# Altium integrated library SparkFun-Electromechanical.Library.IntLib: 17 symbols
Pins are listed as number, name and electrical type; pins without a type are passive.

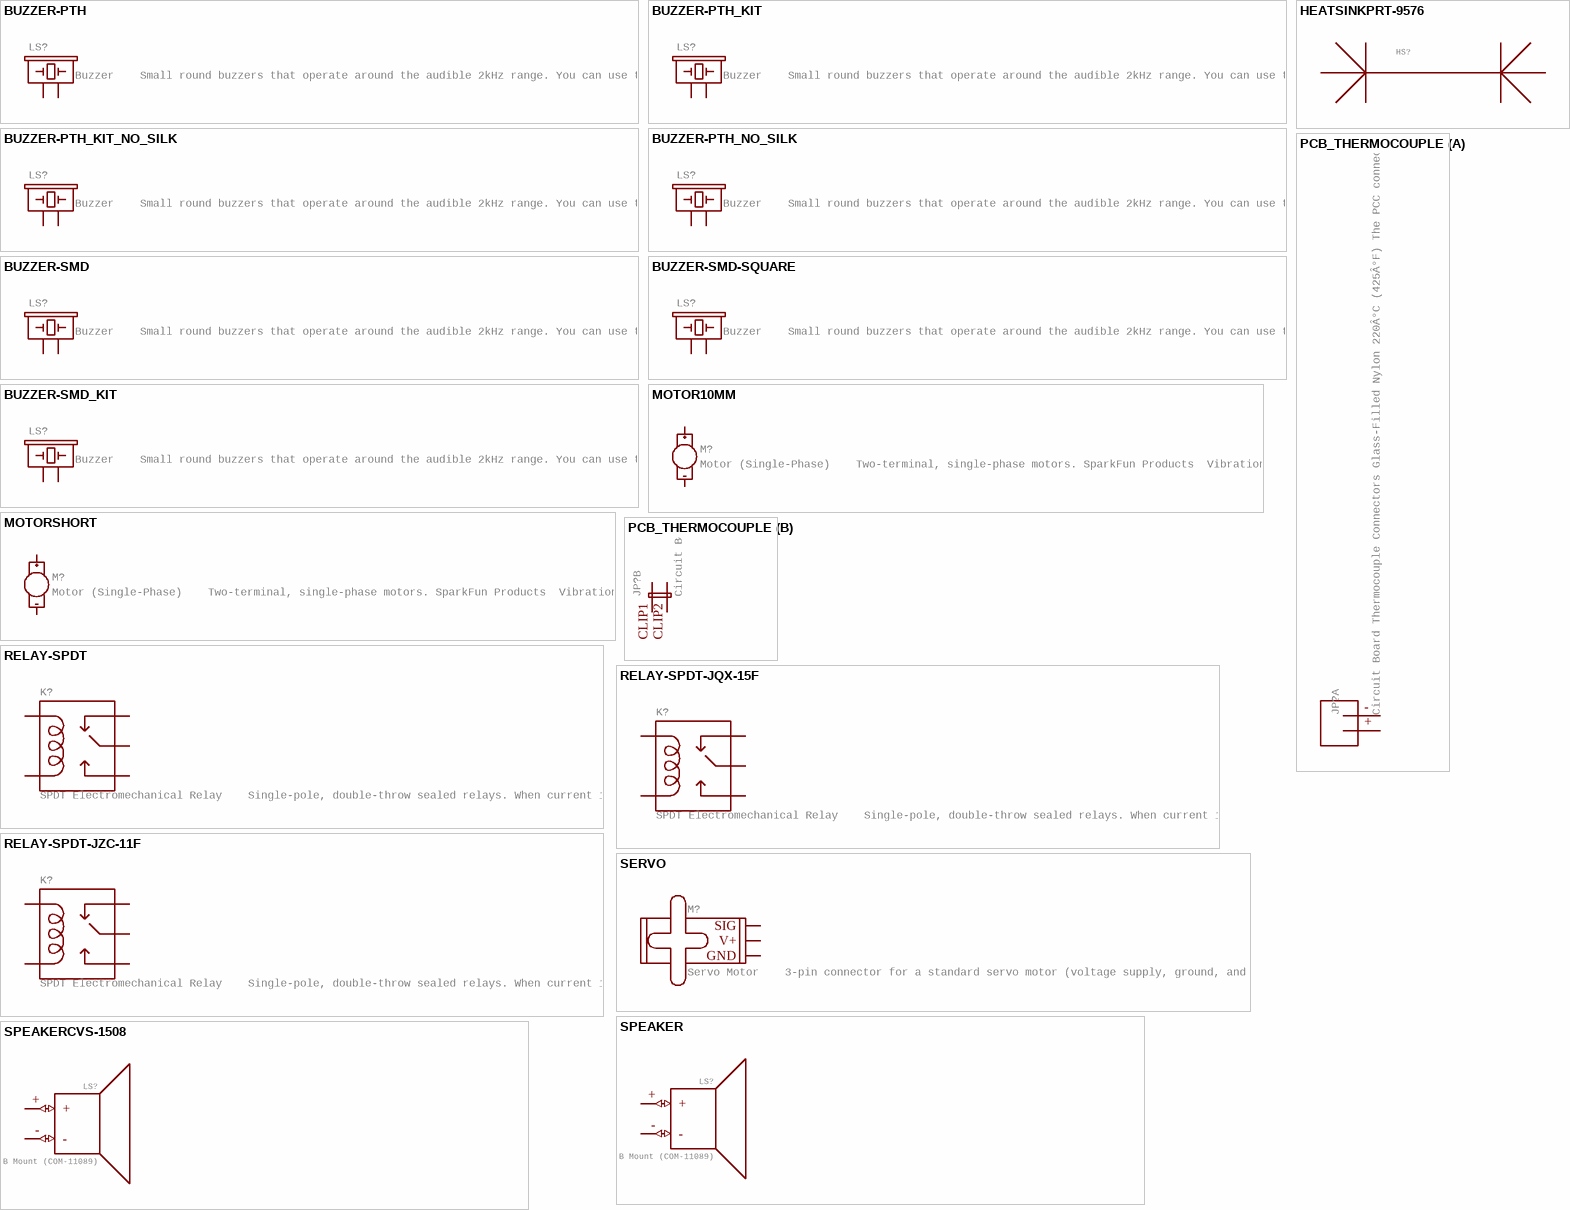
[diagram p0: symbols BUZZER-PTH to SPEAKERCVS-1508]

## BUZZER-PTH
designator LS?, comment Buzzer    Small round buzzers that operate around the audible 2kHz range. You can use these as speakers to create simple music or user interfaces.   Variant Overview:  PTH -  Mini Speaker - PC Mount 12mm 2.048kHz  PTH_KIT -  Mini Speaker - PC Mount 12mm 2.048kHz   KIT simplifies soldering by adding stop mask to one side of the pads.     PTH_NO_SILK -  Mini Speaker - PC Mount 12mm 2.048kHz   No silkscreen indicator of buzzer outline.     PTH_KIT_NO_SILK -  Mini Speaker - PC Mount 12mm 2.048kHz   KIT package w/o silkscreen     SMD -  Buzzer Audio Magnetic (CCV-084B16)   SMD buzzer used on, e.g. the LilyPad Buzzer and RFID USB Reader.  SMD_KIT -  Buzzer Audio Magnetic (CCV-084B16)  SMD Buzzer with elongated pins to make soldering easier. Used on the SparkFun Simon Says - Surface Mount Soldering Kit.     SMD-SQUARE -  Buzzer Audio Magnetic (COMP-15701)  SMT square buzzer with one chamfered corner.
GateName_1: G$1; DeviceName: -PTH; PROD_ID: COMP-08253; SF_SKU: COM-07950; SymbolName_1: BUZZER; LibraryName: SparkFun-Electromechanical; DeviceSetName: BUZZER; Package: BUZZER-12MM
footprint BUZZER-12MM
pins: + 1, - 2

## BUZZER-PTH_KIT
designator LS?, comment Buzzer    Small round buzzers that operate around the audible 2kHz range. You can use these as speakers to create simple music or user interfaces.   Variant Overview:  PTH -  Mini Speaker - PC Mount 12mm 2.048kHz  PTH_KIT -  Mini Speaker - PC Mount 12mm 2.048kHz   KIT simplifies soldering by adding stop mask to one side of the pads.     PTH_NO_SILK -  Mini Speaker - PC Mount 12mm 2.048kHz   No silkscreen indicator of buzzer outline.     PTH_KIT_NO_SILK -  Mini Speaker - PC Mount 12mm 2.048kHz   KIT package w/o silkscreen     SMD -  Buzzer Audio Magnetic (CCV-084B16)   SMD buzzer used on, e.g. the LilyPad Buzzer and RFID USB Reader.  SMD_KIT -  Buzzer Audio Magnetic (CCV-084B16)  SMD Buzzer with elongated pins to make soldering easier. Used on the SparkFun Simon Says - Surface Mount Soldering Kit.     SMD-SQUARE -  Buzzer Audio Magnetic (COMP-15701)  SMT square buzzer with one chamfered corner.
GateName_1: G$1; DeviceName: -PTH_KIT; PROD_ID: COMP-08253; SF_SKU: COM-07950; SymbolName_1: BUZZER; LibraryName: SparkFun-Electromechanical; DeviceSetName: BUZZER; Package: BUZZER-12MM-KIT
footprint BUZZER-12MM-KIT
pins: + 1, - 2

## BUZZER-PTH_KIT_NO_SILK
designator LS?, comment Buzzer    Small round buzzers that operate around the audible 2kHz range. You can use these as speakers to create simple music or user interfaces.   Variant Overview:  PTH -  Mini Speaker - PC Mount 12mm 2.048kHz  PTH_KIT -  Mini Speaker - PC Mount 12mm 2.048kHz   KIT simplifies soldering by adding stop mask to one side of the pads.     PTH_NO_SILK -  Mini Speaker - PC Mount 12mm 2.048kHz   No silkscreen indicator of buzzer outline.     PTH_KIT_NO_SILK -  Mini Speaker - PC Mount 12mm 2.048kHz   KIT package w/o silkscreen     SMD -  Buzzer Audio Magnetic (CCV-084B16)   SMD buzzer used on, e.g. the LilyPad Buzzer and RFID USB Reader.  SMD_KIT -  Buzzer Audio Magnetic (CCV-084B16)  SMD Buzzer with elongated pins to make soldering easier. Used on the SparkFun Simon Says - Surface Mount Soldering Kit.     SMD-SQUARE -  Buzzer Audio Magnetic (COMP-15701)  SMT square buzzer with one chamfered corner.
GateName_1: G$1; DeviceName: -PTH_KIT_NO_SILK; PROD_ID: COMP-08253; SF_SKU: COM-07950; SymbolName_1: BUZZER; LibraryName: SparkFun-Electromechanical; DeviceSetName: BUZZER; Package: BUZZER-12MM-NS-KIT
footprint BUZZER-12MM-NS-KIT
pins: + 1, - 2

## BUZZER-PTH_NO_SILK
designator LS?, comment Buzzer    Small round buzzers that operate around the audible 2kHz range. You can use these as speakers to create simple music or user interfaces.   Variant Overview:  PTH -  Mini Speaker - PC Mount 12mm 2.048kHz  PTH_KIT -  Mini Speaker - PC Mount 12mm 2.048kHz   KIT simplifies soldering by adding stop mask to one side of the pads.     PTH_NO_SILK -  Mini Speaker - PC Mount 12mm 2.048kHz   No silkscreen indicator of buzzer outline.     PTH_KIT_NO_SILK -  Mini Speaker - PC Mount 12mm 2.048kHz   KIT package w/o silkscreen     SMD -  Buzzer Audio Magnetic (CCV-084B16)   SMD buzzer used on, e.g. the LilyPad Buzzer and RFID USB Reader.  SMD_KIT -  Buzzer Audio Magnetic (CCV-084B16)  SMD Buzzer with elongated pins to make soldering easier. Used on the SparkFun Simon Says - Surface Mount Soldering Kit.     SMD-SQUARE -  Buzzer Audio Magnetic (COMP-15701)  SMT square buzzer with one chamfered corner.
GateName_1: G$1; DeviceName: -PTH_NO_SILK; PROD_ID: COMP-08253; SF_SKU: COM-07950; SymbolName_1: BUZZER; LibraryName: SparkFun-Electromechanical; DeviceSetName: BUZZER; Package: BUZZER-12MM-NS
footprint BUZZER-12MM-NS
pins: + 1, - 2

## BUZZER-SMD
designator LS?, comment Buzzer    Small round buzzers that operate around the audible 2kHz range. You can use these as speakers to create simple music or user interfaces.   Variant Overview:  PTH -  Mini Speaker - PC Mount 12mm 2.048kHz  PTH_KIT -  Mini Speaker - PC Mount 12mm 2.048kHz   KIT simplifies soldering by adding stop mask to one side of the pads.     PTH_NO_SILK -  Mini Speaker - PC Mount 12mm 2.048kHz   No silkscreen indicator of buzzer outline.     PTH_KIT_NO_SILK -  Mini Speaker - PC Mount 12mm 2.048kHz   KIT package w/o silkscreen     SMD -  Buzzer Audio Magnetic (CCV-084B16)   SMD buzzer used on, e.g. the LilyPad Buzzer and RFID USB Reader.  SMD_KIT -  Buzzer Audio Magnetic (CCV-084B16)  SMD Buzzer with elongated pins to make soldering easier. Used on the SparkFun Simon Says - Surface Mount Soldering Kit.     SMD-SQUARE -  Buzzer Audio Magnetic (COMP-15701)  SMT square buzzer with one chamfered corner.
GateName_1: G$1; DeviceName: -SMD; PROD_ID: COMP-08568; SymbolName_1: BUZZER; LibraryName: SparkFun-Electromechanical; DeviceSetName: BUZZER; Package: BUZZER-CCV
footprint BUZZER-CCV
pins: + 1, - 2

## BUZZER-SMD-SQUARE
designator LS?, comment Buzzer    Small round buzzers that operate around the audible 2kHz range. You can use these as speakers to create simple music or user interfaces.   Variant Overview:  PTH -  Mini Speaker - PC Mount 12mm 2.048kHz  PTH_KIT -  Mini Speaker - PC Mount 12mm 2.048kHz   KIT simplifies soldering by adding stop mask to one side of the pads.     PTH_NO_SILK -  Mini Speaker - PC Mount 12mm 2.048kHz   No silkscreen indicator of buzzer outline.     PTH_KIT_NO_SILK -  Mini Speaker - PC Mount 12mm 2.048kHz   KIT package w/o silkscreen     SMD -  Buzzer Audio Magnetic (CCV-084B16)   SMD buzzer used on, e.g. the LilyPad Buzzer and RFID USB Reader.  SMD_KIT -  Buzzer Audio Magnetic (CCV-084B16)  SMD Buzzer with elongated pins to make soldering easier. Used on the SparkFun Simon Says - Surface Mount Soldering Kit.     SMD-SQUARE -  Buzzer Audio Magnetic (COMP-15701)  SMT square buzzer with one chamfered corner.
GateName_1: G$1; DeviceName: -SMD-SQUARE; SymbolName_1: BUZZER; LibraryName: SparkFun-Electromechanical; DeviceSetName: BUZZER; Package: BUZZER_SMD; PROD_ID: COMP-15701
footprint BUZZER_SMD
pins: + 1, - 2

## BUZZER-SMD_KIT
designator LS?, comment Buzzer    Small round buzzers that operate around the audible 2kHz range. You can use these as speakers to create simple music or user interfaces.   Variant Overview:  PTH -  Mini Speaker - PC Mount 12mm 2.048kHz  PTH_KIT -  Mini Speaker - PC Mount 12mm 2.048kHz   KIT simplifies soldering by adding stop mask to one side of the pads.     PTH_NO_SILK -  Mini Speaker - PC Mount 12mm 2.048kHz   No silkscreen indicator of buzzer outline.     PTH_KIT_NO_SILK -  Mini Speaker - PC Mount 12mm 2.048kHz   KIT package w/o silkscreen     SMD -  Buzzer Audio Magnetic (CCV-084B16)   SMD buzzer used on, e.g. the LilyPad Buzzer and RFID USB Reader.  SMD_KIT -  Buzzer Audio Magnetic (CCV-084B16)  SMD Buzzer with elongated pins to make soldering easier. Used on the SparkFun Simon Says - Surface Mount Soldering Kit.     SMD-SQUARE -  Buzzer Audio Magnetic (COMP-15701)  SMT square buzzer with one chamfered corner.
GateName_1: G$1; DeviceName: -SMD_KIT; PROD_ID: COMP-08568; SymbolName_1: BUZZER; LibraryName: SparkFun-Electromechanical; DeviceSetName: BUZZER; Package: BUZZER-CCV-KIT
footprint BUZZER-CCV-KIT
pins: + 1, - 2

## HEATSINKPRT-9576
designator HS?
GateName_1: G$1; SymbolName_1: HEATSINK; DeviceName: PRT-9576; LibraryName: SparkFun-Electromechanical; DeviceSetName: HEATSINK; Package: HEATSINK_PRT-9576; PROD_ID: COMP-9537
footprint HEATSINK_PRT-9576

## MOTOR10MM
designator M?, comment Motor (Single-Phase)    Two-terminal, single-phase motors. SparkFun Products  Vibration Motor (ROB-08449)  Physical dimension and wire connections for this powerful vibration motor. Motor has a self adhesive backing.
GateName_1: G$1; DeviceName: 10MM; PROD_ID: COMP-08572; SymbolName_1: MOTOR; LibraryName: SparkFun-Electromechanical; DeviceSetName: MOTOR; Package: VIBE-MOTOR-10MM; SF_SKU: ROB-08449
footprint VIBE-MOTOR-10MM
pins: + (io), - (io)

## MOTORSHORT
designator M?, comment Motor (Single-Phase)    Two-terminal, single-phase motors. SparkFun Products  Vibration Motor (ROB-08449)  Physical dimension and wire connections for this powerful vibration motor. Motor has a self adhesive backing.
GateName_1: G$1; DeviceName: SHORT; PROD_ID: COMP-13709; SymbolName_1: MOTOR; LibraryName: SparkFun-Electromechanical; DeviceSetName: MOTOR; Package: VIBE-MOTOR-10MM-SMD
footprint VIBE-MOTOR-10MM-SMD
pins: + (io), - (io)

## PCB_THERMOCOUPLE
designator JP?, comment Circuit Board Thermocouple Connectors Glass-Filled Nylon 220Â°C (425Â°F) The PCC connector from OMEGA is perfect for bringing thermocouple probes to printed circuit boards.  (OMEGA PCC-SMP) For type-k thermocouples.
GateName_1: G$1; GateName_2: G$2; SymbolName_2: JUMPER-2; DeviceSetName: PCB_THERMOCOUPLE; PROD_ID: CONN-13075; SymbolName_1: PCC-SMP; LibraryName: SparkFun-Electromechanical; Package: PCC-SMP
footprint PCC-SMP
part A pins: +, -
part B pins: CLIP1 1, CLIP2 2

## RELAY-SPDT
designator K?, comment SPDT Electromechanical Relay    Single-pole, double-throw sealed relays. When current is applied to the coil, it throws a simple changeover switch, terminating the connection from the NC contact to ground and closing the NO contact. Use them to switch high voltage/high current devices. SparkFun Products  JQX-15F: Relay SPDT Sealed - 20A (COM-10924)  JZC-11F: Relay SPDT Sealed (COM-00100)
GateName_1: K$1; SymbolName_1: RELAY-SPDT; PROD_ID: COMP-14214; LibraryName: SparkFun-Electromechanical; DeviceSetName: RELAY-SPDT; Package: RELAY_G5LE
footprint RELAY_G5LE
pins: 1 MAIN (io), 2 COIL1 (io), 3 NO (io), 4 NC (io), 5 COIL2 (io)

## RELAY-SPDT-JQX-15F
designator K?, comment SPDT Electromechanical Relay    Single-pole, double-throw sealed relays. When current is applied to the coil, it throws a simple changeover switch, terminating the connection from the NC contact to ground and closing the NO contact. Use them to switch high voltage/high current devices. SparkFun Products  JQX-15F: Relay SPDT Sealed - 20A (COM-10924)  JZC-11F: Relay SPDT Sealed (COM-00100)
GateName_1: K$1; SymbolName_1: RELAY-SPDT; DeviceName: -JQX-15F; PROD_ID: COMP-10736; LibraryName: SparkFun-Electromechanical; DeviceSetName: RELAY-SPDT; Package: RELAY-T90; SF_SKU: COM-10924
footprint RELAY-T90
pins: COIL1 (io), COIL2 (io), MAIN (io), NC (io), NO (io)

## RELAY-SPDT-JZC-11F
designator K?, comment SPDT Electromechanical Relay    Single-pole, double-throw sealed relays. When current is applied to the coil, it throws a simple changeover switch, terminating the connection from the NC contact to ground and closing the NO contact. Use them to switch high voltage/high current devices. SparkFun Products  JQX-15F: Relay SPDT Sealed - 20A (COM-10924)  JZC-11F: Relay SPDT Sealed (COM-00100)
GateName_1: K$1; SymbolName_1: RELAY-SPDT; DeviceName: -JZC-11F; PROD_ID: COMP-09533; LibraryName: SparkFun-Electromechanical; DeviceSetName: RELAY-SPDT; Package: RELAY-JZC; SF_SKU: COM-00100
footprint RELAY-JZC
pins: 1 COIL2 (io), 2 NC (io), 3 NO (io), 4 MAIN (io), 5 COIL1 (io)

## SERVO
designator M?, comment Servo Motor    3-pin connector for a standard servo motor (voltage supply, ground, and control signal.) SparkFun Products  Servo - Generic (Sub-Micro Size) (ROB-09065)  Servo - Generic High Torque Continuous Rotation (Standard Size) (ROB-09347)  Servo - Generic High Torque (Standard Size) (ROB-11965)
GateName_1: G$1; SymbolName_1: SMALL_SERVO_MOTOR; LibraryName: SparkFun-Electromechanical; DeviceSetName: SERVO; Package: 1X03
footprint 1X03
pins: 1 SIG (io), 2 V+ (io), 3 GND (io)

## SPEAKER
designator LS?, comment Speaker    Generic 2-terminal loudspeakers SparkFun Products  Speaker - PCB Mount (COM-11089)
GateName_1: G$1; PROD_ID: COMP-11789; SymbolName_1: SPEAKER; LibraryName: SparkFun-Electromechanical; DeviceSetName: SPEAKER; Package: PCB_MOUNT_SPEAKER; SF_SKU: COM-11089
footprint PCB_MOUNT_SPEAKER
pins: + (io), - (io)

## SPEAKERCVS-1508
designator LS?, comment Speaker    Generic 2-terminal loudspeakers SparkFun Products  Speaker - PCB Mount (COM-11089)
GateName_1: G$1; PROD_ID: COM-14823; SymbolName_1: SPEAKER; DeviceName: CVS-1508; LibraryName: SparkFun-Electromechanical; DeviceSetName: SPEAKER; Package: CVS-1508_PCBSPKR
footprint CVS-1508_PCBSPKR
pins: + (io), - (io)